# EAGLE library part IV02-7/5 (library Russian-VFD-tubes)
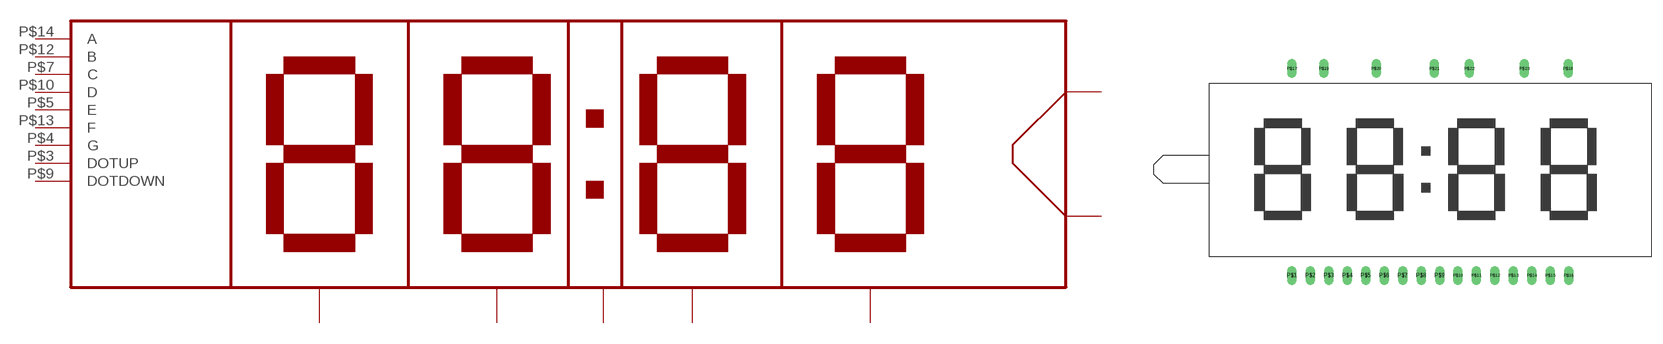
[diagram p11: symbol with the pads of IV02-7/5; footprint IV02-7/5]

Designator prefix -

## IV02-7/5  [IV02-7/5]
P$1  FIL1
P$2  DIGIT_1
P$3  DOTUP
P$4  G
P$5  E
P$6  DIGIT_2
P$7  C
P$8  DIGIT_3
P$9  DOTDOWN
P$10  D
P$11  DIGIT_4
P$12  B
P$13  F
P$14  A
P$15  DIGIT_5
P$16  FIL2

## Footprint IV02-7/5 (pad centres in mm)
drill 0.8 long: P$1 0,0; P$2 2.54,0; P$3 5.08,0; P$4 7.62,0; P$5 10.16,0; P$6 12.7,0; P$7 15.24,0; P$8 17.78,0; P$9 20.32,0; P$10 22.86,0; P$11 25.4,0; P$12 27.94,0; P$13 30.48,0; P$14 33.02,0; P$15 35.56,0; P$16 38.1,0; P$17 0,28.5; P$18 38,28.5; P$19 4.4,28.5; P$20 11.6,28.5; P$21 19.6,28.5; P$22 24.4,28.5; P$23 32,28.5